# EAGLE library part PA0184 (library pulse)
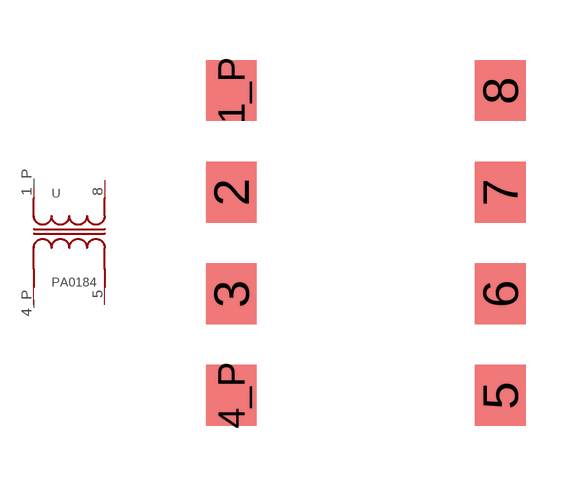
[diagram p0: symbol with the pads of PA0184; footprint PA0184]

Designator prefix -

## PA0184  [PA0184]
1_P  1
2  2
3  3
4_P  4
5  5
6  6
7  7
8  8

## Footprint PA0184 (pad centres in mm)
smd 1.27 x 1.524: 1_P -3.365,3.81; 2 -3.365,1.27; 3 -3.365,-1.27; 4_P -3.365,-3.81; 5 3.365,-3.81; 6 3.365,-1.27; 7 3.365,1.27; 8 3.365,3.81